# Altium footprint library x-TI_S-PVSON-N9.PcbLib: 1 footprints
Each footprint in its own frame and in the unit in brackets; x right, y up, seen from the top. Pads: shape width x height; smd on the part's side, far side on the other; paste and mask are expansions set on the pad; w line width, h text height; cw(c..) or ccw(c..) is an arc to the next point about the centre after c.
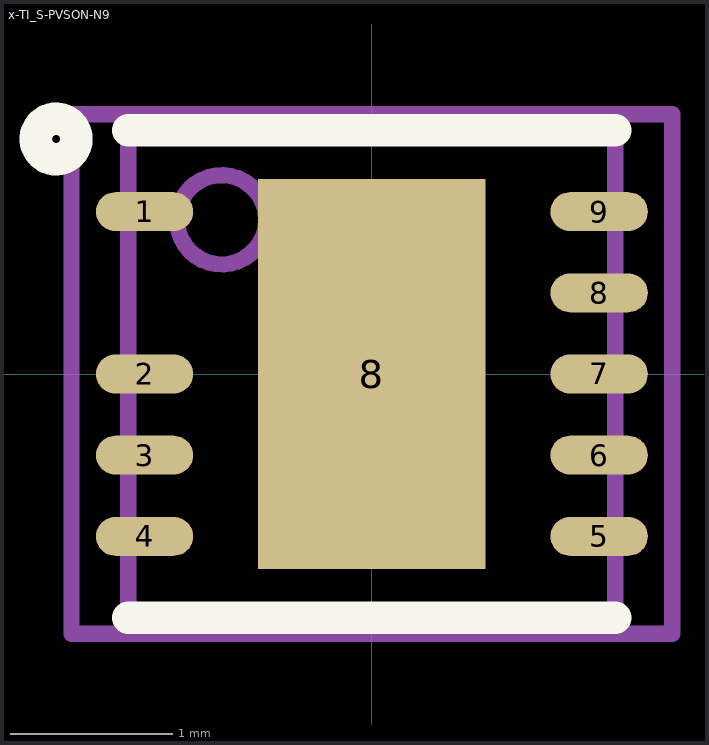
[diagram p0: the footprint, top view; thin cyan lines are the x and y axes]

## x-TI_S-PVSON-N9 [mm] "9-SON (3x3)"
pads (10):
  oval 0.6x0.24 smd: 1(-1.4,1) 2(-1.4,0) 3(-1.4,-0.5) 4(-1.4,-1) 5(1.4,-1) 6(1.4,-0.5) 7(1.4,0) 8(1.4,0.5) 9(1.4,1)
  rect 1.4x2.4 smd: 8(0,0)
Top Overlay:
  circle w0.2: c-1.945,1.448 r0.125
  lines w0.2: -1.5,-1.5 1.5,-1.5 ; -1.5,1.5 1.5,1.5
Mechanical 13:
  circle w0.1: c-0.925,0.95 r0.275
  lines w0.1: -1.5,-1.5 1.5,-1.5 1.5,1.5 -1.5,1.5 -1.5,-1.5
Mechanical 15:
  lines w0.1: -0.5,0 0.5,0 ; 0,-0.5 0,0.5 ; -1.85,-1.6 1.85,-1.6 1.85,1.6 -1.85,1.6 -1.85,-1.6
3D body: height 0.9, standoff 0, extent -1.5,-1.5 1.5,1.5